# Altium schematic symbol library 示波器.SchLib: 75 symbols
Pins are listed as number, name and electrical type; pins without a type are passive.

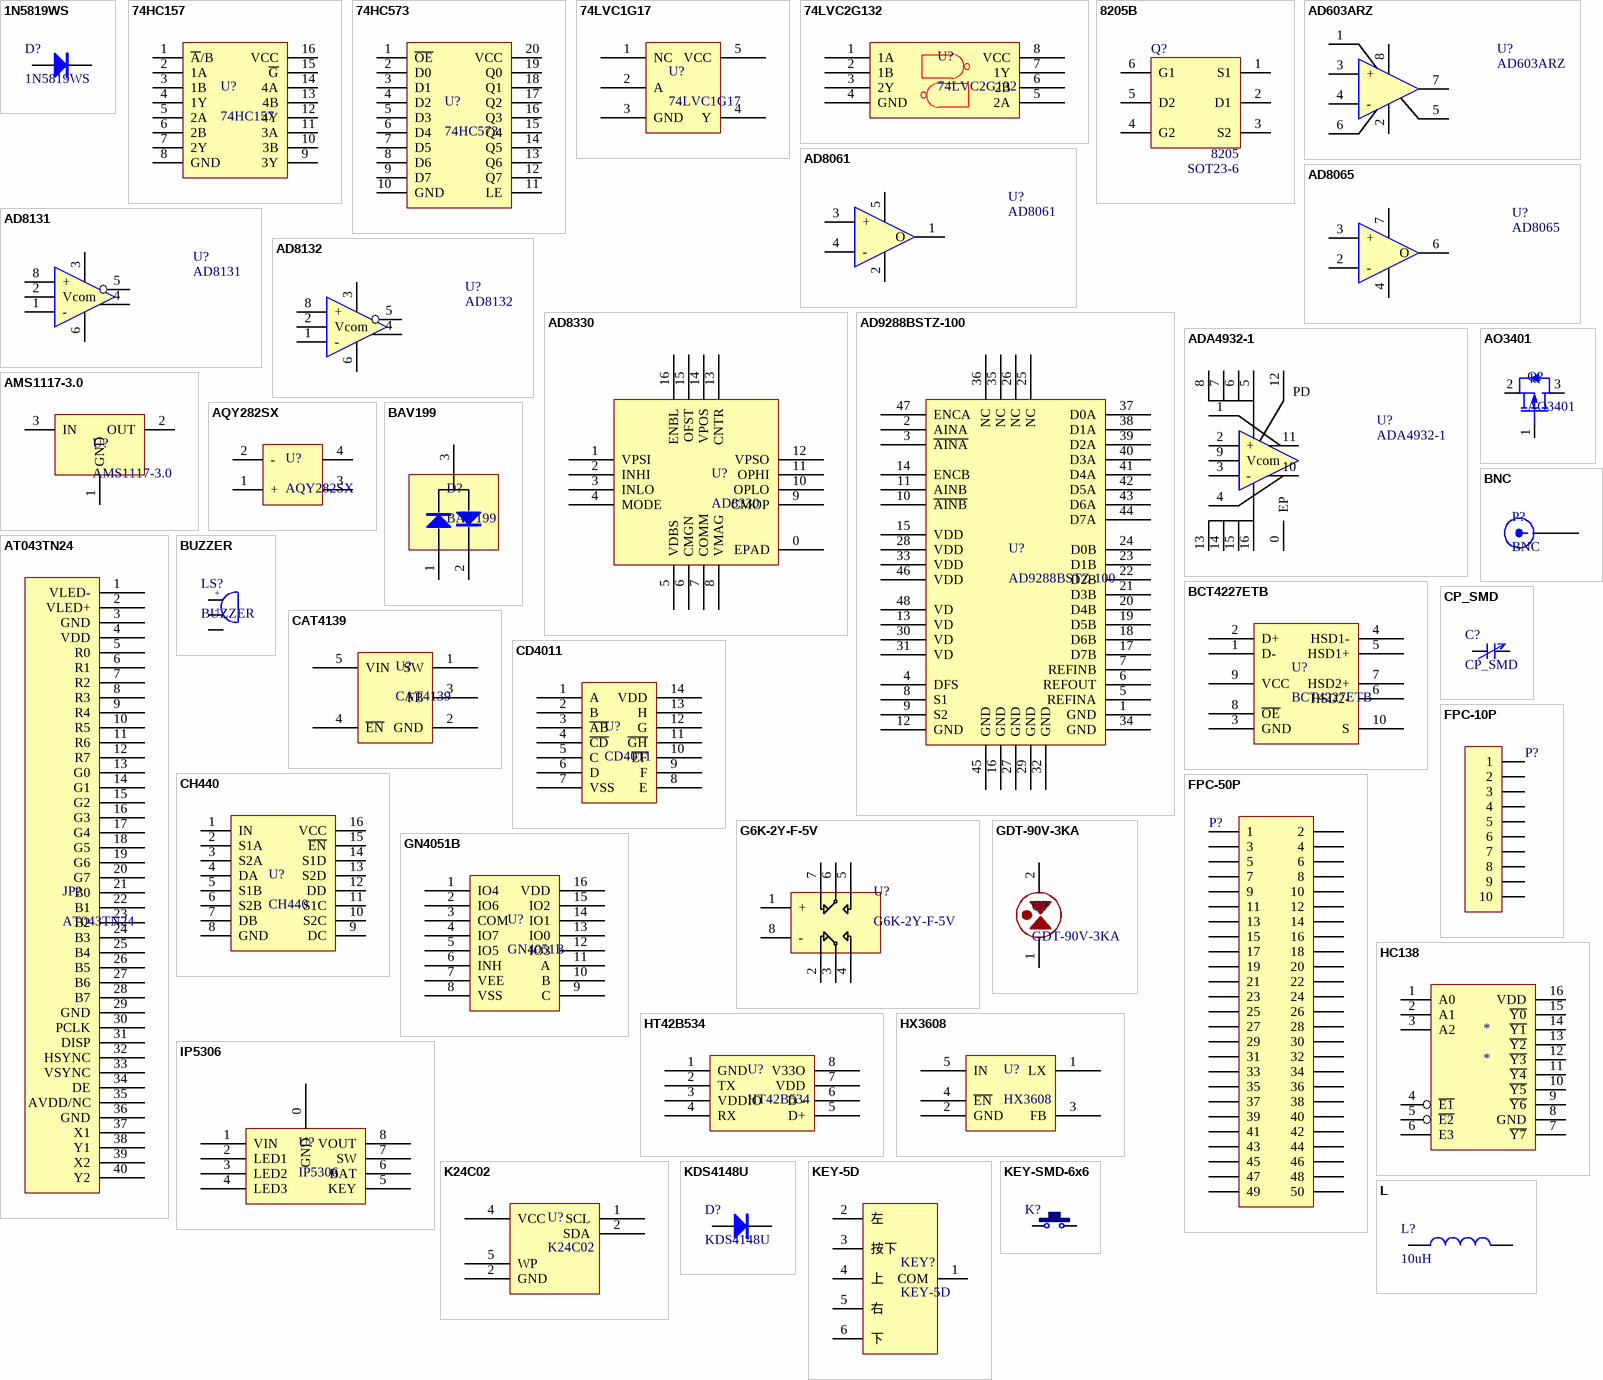
[diagram p0: symbols 1N5819WS to L]

## 1N5819WS
designator D?
肖特基二极管; 版权归属: 源创客; 属性: 40V/2A; BOM名称: 肖特基二极管; 学习资源: www.ooocke.com
footprint SOD-323 (1.8x1.3X0.9mm（长宽高，不包括引脚）)
pins: 1 A, 2 K

## 74HC157
designator U?
四路2选1模拟开关
footprint SOP16_L (10.3*6.2*1.8mm（长宽高）)
pins: 1 ~{A}/B, 2 1A, 3 1B, 4 1Y, 5 2A, 6 2B, 7 2Y, 8 GND, 9 3Y, 10 3B, 11 3A, 12 4Y, 13 4B, 14 4A, 15 ~{G}, 16 VCC

## 74HC573
designator U?
8位三态锁存器
footprint TSSOP20_L (6.5*6.4*1（长宽高）)
pins: 1 ~{OE}, 2 D0, 3 D1, 4 D2, 5 D3, 6 D4, 7 D5, 8 D6, 9 D7, 10 GND, 11 LE, 12 Q7, 13 Q6, 14 Q5, 15 Q4, 16 Q3, 17 Q2, 18 Q1, 19 Q0, 20 VCC

## 74LVC1G17
designator U?
逻辑-缓冲器
footprint SOT-25-5
footprint SOT-353
pins: 1 NC, 2 A, 3 GND, 4 Y, 5 VCC

## 74LVC2G132
designator U?
门级和反相器
footprint US-8
pins: 1 1A, 2 1B, 3 2Y, 4 GND, 5 2A, 6 2B, 7 1Y, 8 VCC

## 8205B
designator Q?, comment Footprinf: SOT23-6  (hidden comment: 8205)
双NMOS; Value: 8205
footprint SOT-23-6M
pins: 1 S1, 2 D1, 3 S2, 4 G2, 5 D2, 6 G1
2 alternate drawings of the same symbol

## AD603ARZ
designator U?
低噪声运放; BOM名称: 单路精密运放; 版权归属: 源创客; 学习资源: www.ooocke.com
footprint SOP8_L (5*6*1.8mm（长宽高）)
footprint SOP8_N (5*6*1.8mm（长宽高）)
footprint SOP8_M (5*6*1.8mm（长宽高）)
footprint DIP8-300 (9.4*7.6*3.8(长宽高）)
pins: 1, 2, 3 +, 4 -, 5, 6, 7, 8

## AD8061
designator U?
FET输入运放; BOM名称: 单路精密运放; 版权归属: 源创客; 学习资源: www.ooocke.com
footprint SOT23-5
pins: 1 O, 2, 3 +, 4 -, 5

## AD8065
designator U?
FET输入运放; BOM名称: 单路精密运放; 版权归属: 源创客; 学习资源: www.ooocke.com
footprint SOP8_L (5*6*1.8mm（长宽高）)
footprint SOP8_N (5*6*1.8mm（长宽高）)
footprint SOP8_M (5*6*1.8mm（长宽高）)
footprint DIP8-300 (9.4*7.6*3.8(长宽高）)
pins: 2 -, 3 +, 4, 6 O, 7

## AD8131
designator U?
全差分运放; BOM名称: 单路精密运放; 版权归属: 源创客; 学习资源: www.ooocke.com
footprint SOP8_L (5*6*1.8mm（长宽高）)
pins: 1 -, 2 Vcom, 3, 4, 5, 6, 8 +

## AD8132
designator U?
全差分运放; BOM名称: 单路精密运放; 版权归属: 源创客; 学习资源: www.ooocke.com
footprint SOP8_L (5*6*1.8mm（长宽高）)
pins: 1 -, 2 Vcom, 3, 4, 5, 6, 8 +

## AD8330
designator U?
压控放大器
footprint LFCSP-16
pins: 0 EPAD, 1 VPSI, 2 INHI, 3 INLO, 4 MODE, 5 VDBS, 6 CMGN, 7 COMM, 8 VMAG, 9 CMOP, 10 OPLO, 11 OPHI, 12 VPSO, 13 CNTR, 14 VPOS, 15 OFST, 16 ENBL

## AD9288BSTZ-100
designator U?
并行双通道高速ADC
footprint TQFP48 7x7_L (48脚，体宽：7x7mm, 脚距：0.5mm)
pins: 1 GND, 2 AINA, 3 ~{AINA}, 4 DFS, 5 REFINA, 6 REFOUT, 7 REFINB, 8 S1, 9 S2, 10 ~{AINB}, 11 AINB, 12 GND, 13 VD, 14 ENCB, 15 VDD, 16 GND, 17 D7B, 18 D6B, 19 D5B, 20 D4B, 21 D3B, 22 D2B, 23 D1B, 24 D0B, 25 NC, 26 NC, 27 GND, 28 VDD, 29 GND, 30 VD, 31 VD, 32 GND, 33 VDD, 34 GND, 35 NC, 36 NC, 37 D0A, 38 D1A, 39 D2A, 40 D3A, 41 D4A, 42 D5A, 43 D6A, 44 D7A, 45 GND, 46 VDD, 47 ENCA, 48 VD

## ADA4932-1
designator U?
差分运放; BOM名称: 单路精密运放; 版权归属: 源创客; 学习资源: www.ooocke.com
footprint LFCSP-16
pins: 0 EP, 1, 2 +, 3 -, 4, 5, 6, 7, 8, 9 Vcom, 10, 11, 12, 13, 14, 15, 16
text: PD

## AMS1117-3.0
designator U?
线性稳压器
footprint SOT-223
pins: 1 GND, 2 OUT, 3 IN

## AO3401
designator Q?
P沟道MOS管
footprint SOT23-3L (3x1.3x1mm(长宽高))
pins: 1, 2, 3

## AQY282SX
designator U?
光电固态继电器
footprint SOP4_L (4.4*6.8*2.1mm（长宽高）)
pins: 1 +, 2 -, 3, 4

## AT043TN24
designator JP?
LED显示屏
footprint FPC0.5 2H-WS-40P (长：24.2mm，宽：5.2mm，高：2mm)
pins: 1 VLED-, 2 VLED+, 3 GND, 4 VDD, 5 R0, 6 R1, 7 R2, 8 R3, 9 R4, 10 R5, 11 R6, 12 R7, 13 G0, 14 G1, 15 G2, 16 G3, 17 G4, 18 G5, 19 G6, 20 G7, 21 B0, 22 B1, 23 B2, 24 B3, 25 B4, 26 B5, 27 B6, 28 B7, 29 GND, 30 PCLK, 31 DISP, 32 HSYNC, 33 VSYNC, 34 DE, 35 AVDD/NC, 36 GND, 37 X1, 38 Y1, 39 X2, 40 Y2

## BAV199
designator D?
双肖特基二极管; BOM名称: 肖特基二极管; 版权归属: 源创客; 属性: 40V/2A; 学习资源: www.ooocke.com
footprint SOT23-3L (3x1.3x1mm(长宽高))
pins: 1, 2, 3

## BCT4227ETB
designator U?
模拟开关芯片
footprint QFN10
pins: 1 D-, 2 D+, 3 GND, 4 HSD1-, 5 HSD1+, 6 HSD2-, 7 HSD2+, 8 ~{OE}, 9 VCC, 10 S

## BNC
designator P?
BNC公头
footprint BNC-TH
pins: 1

## BUZZER
designator LS?
蜂鸣器; 版权归属: 源创客; BOM名称: 蜂鸣器; 学习资源: www.ooocke.com
footprint BUZZER-5*5*2mm
pins: 1, 2, 3
text: +; -

## CAT4139
designator U?
LED驱动
footprint SOT23-5L (3x1.6x1.1mm(长宽高))
pins: 1 SW, 2 GND, 3 FB, 4 ~{EN}, 5 VIN

## CD4011
designator U?
四二输入与非门
footprint SOP14_L (8.7*6.2*1.8mm（长宽高）)
pins: 1 A, 2 B, 3 ~{AB}, 4 ~{CD}, 5 C, 6 D, 7 VSS, 8 E, 9 F, 10 ~{EF}, 11 ~{GH}, 12 G, 13 H, 14 VDD

## CH440
designator U?
四路2选1模拟开关
footprint SOP16_L (10.3*6.2*1.8mm（长宽高）)
pins: 1 IN, 2 S1A, 3 S2A, 4 DA, 5 S1B, 6 S2B, 7 DB, 8 GND, 9 DC, 10 S2C, 11 S1C, 12 DD, 13 S2D, 14 S1D, 15 ~{EN}, 16 VCC

## CP_SMD
designator C?
贴片可调电容
footprint RC-SMD
pins: 1, 2

## FPC-10P
designator P?, comment FPC1.0-10P  (value not drawn)
FPC连接器; 版权归属: 源创客; BOM名称: FPC连接器; 学习资源: www.ooocke.com
footprint FPC1.25A-LI-10P (10脚，长：16mm，宽：4.5mm，高：7.3mm)
footprint FPC0.5 2H-WS-10P (长：9.2mm，宽：5.2mm，高：2mm)
footprint FPC1.0-2H-WS-10P (翻盖FPC，脚距1mm，不含脚（长14.9mm，宽5.2mm，高1.96mm）)
pins: 1, 2, 3, 4, 5, 6, 7, 8, 9, 10

## FPC-50P
designator P?  (value not drawn)
FPC连接器; 版权归属: 源创客; BOM名称: FPC连接器; 学习资源: www.ooocke.com
footprint FPC-0.5-50P
pins: 1, 2, 3, 4, 5, 6, 7, 8, 9, 10, 11, 12, 13, 14, 15, 16, 17, 18, 19, 20, 21, 22, 23, 24, 25, 26, 27, 28, 29, 30, 31, 32, 33, 34, 35, 36, 37, 38, 39, 40, 41, 42, 43, 44, 45, 46, 47, 48, 49, 50

## G6K-2Y-F-5V
designator U?
继电器
footprint G6K-2F-Y (10mm*6.5mm*5.2mm( 长*宽*高))
pins: 1 +, 2, 3, 4, 5, 6, 7, 8 -

## GDT-90V-3KA
designator G?
气体放电管
footprint GDT-1812
pins: 1, 2

## GN4051B
designator U?
模拟开关芯片
footprint SOP16_L (10.3*6.2*1.8mm（长宽高）)
pins: 1 IO4, 2 IO6, 3 COM, 4 IO7, 5 IO5, 6 INH, 7 VEE, 8 VSS, 9 C, 10 B, 11 A, 12 IO3, 13 IO0, 14 IO1, 15 IO2, 16 VDD

## HC138
designator *
pins: 1 A0, 2 A1, 3 A2, 4 ~{E1}, 5 ~{E2}, 6 E3, 7 ~{Y7}, 8 GND, 9 ~{Y6}, 10 ~{Y5}, 11 ~{Y4}, 12 ~{Y3}, 13 ~{Y2}, 14 ~{Y1}, 15 ~{Y0}, 16 VDD

## HT42B534
designator U?
USB芯片
footprint SOT23-5L (3x1.6x1.1mm(长宽高))
pins: 1 GND, 2 TX, 3 VDDIO, 4 RX, 5 D+, 6 D -, 7 VDD, 8 V33O

## HX3608
designator U?
开关电源
footprint SOT23-6 (SOT-23/SC-74A; 5 Leads; Body 3.1 x 3 mm, inc. leads (LxW max))
pins: 1 LX, 2 GND, 3 FB, 4 ~{EN}, 5 IN

## IP5306
designator U?
电源芯片
footprint SOP-8-G (SOIC, 8-Leads, Body 4.9x3.9mm, Pitc)
pins: 0 GND, 1 VIN, 2 LED1, 3 LED2, 4 LED3, 5 KEY, 6 BAT, 7 SW, 8 VOUT

## K24C02
designator U?
EEPROM
footprint SOT23-5L (3x1.6x1.1mm(长宽高))
pins: 1 SCL, 2 GND, 2 SDA, 4 VCC, 5 WP

## KDS4148U
designator D?
开关二极管; BOM名称: 肖特基二极管; 版权归属: 源创客; 属性: 40V/1A; 学习资源: www.ooocke.com
footprint SMA (4.5x2.6*2.2mm（长宽高，不包括引脚）)
pins: 1 A, 2 K

## KEY-5D
designator KEY?
五向按键
footprint KEY-5D-SMD
pins: 1 COM, 2 左, 3 按下, 4 上, 5 右, 6 下

## KEY-SMD-6x6
designator K?, comment 6x6x5  (value not drawn)
贴片6x6轻触开关; 版权归属: 源创客; BOM名称: 贴片6x6轻触开关; 学习资源: www.ooocke.com
footprint TSW SMD-6*6*4.3 (6*6*4.3mm)
footprint TSW SMD-6*6*5 (6*6*5mm)
footprint TSW SMD-6*6*6 (6*6*6mm)
footprint TSW SMD-6*6*7 (6*6*7mm)
footprint TSW SMD-6*6*8 (6*6*8mm)
footprint TSW SMD-6*6*9 (6*6*9mm)
footprint TSW SMD-6*6*10 (6*6*10mm)
footprint TSW SMD-6*6*12 (6*6*12mm)
footprint TSW SMD-6*6*13 (6*6*13mm)
footprint TSW SMD-6*6*14 (6*6*14mm)
footprint TSW SMD-6*6*15 (6*6*15mm)
pins: 1, 2

## L
designator L?, comment 10uH
小功率贴片电感; 版权归属: 源创客; BOM名称: 小功率贴片电感; 学习资源: www.ooocke.com
footprint L 0402 (小功率贴片电感)
footprint L 0603 (小功率贴片电感)
footprint L 0805 (小功率贴片电感)
footprint L 1206 (小功率贴片电感)
footprint L 1210 (小功率贴片电感)
footprint L 1806 (小功率贴片电感)
footprint L 1812 (小功率贴片电感)
footprint CDRH74R
pins: 1, 2

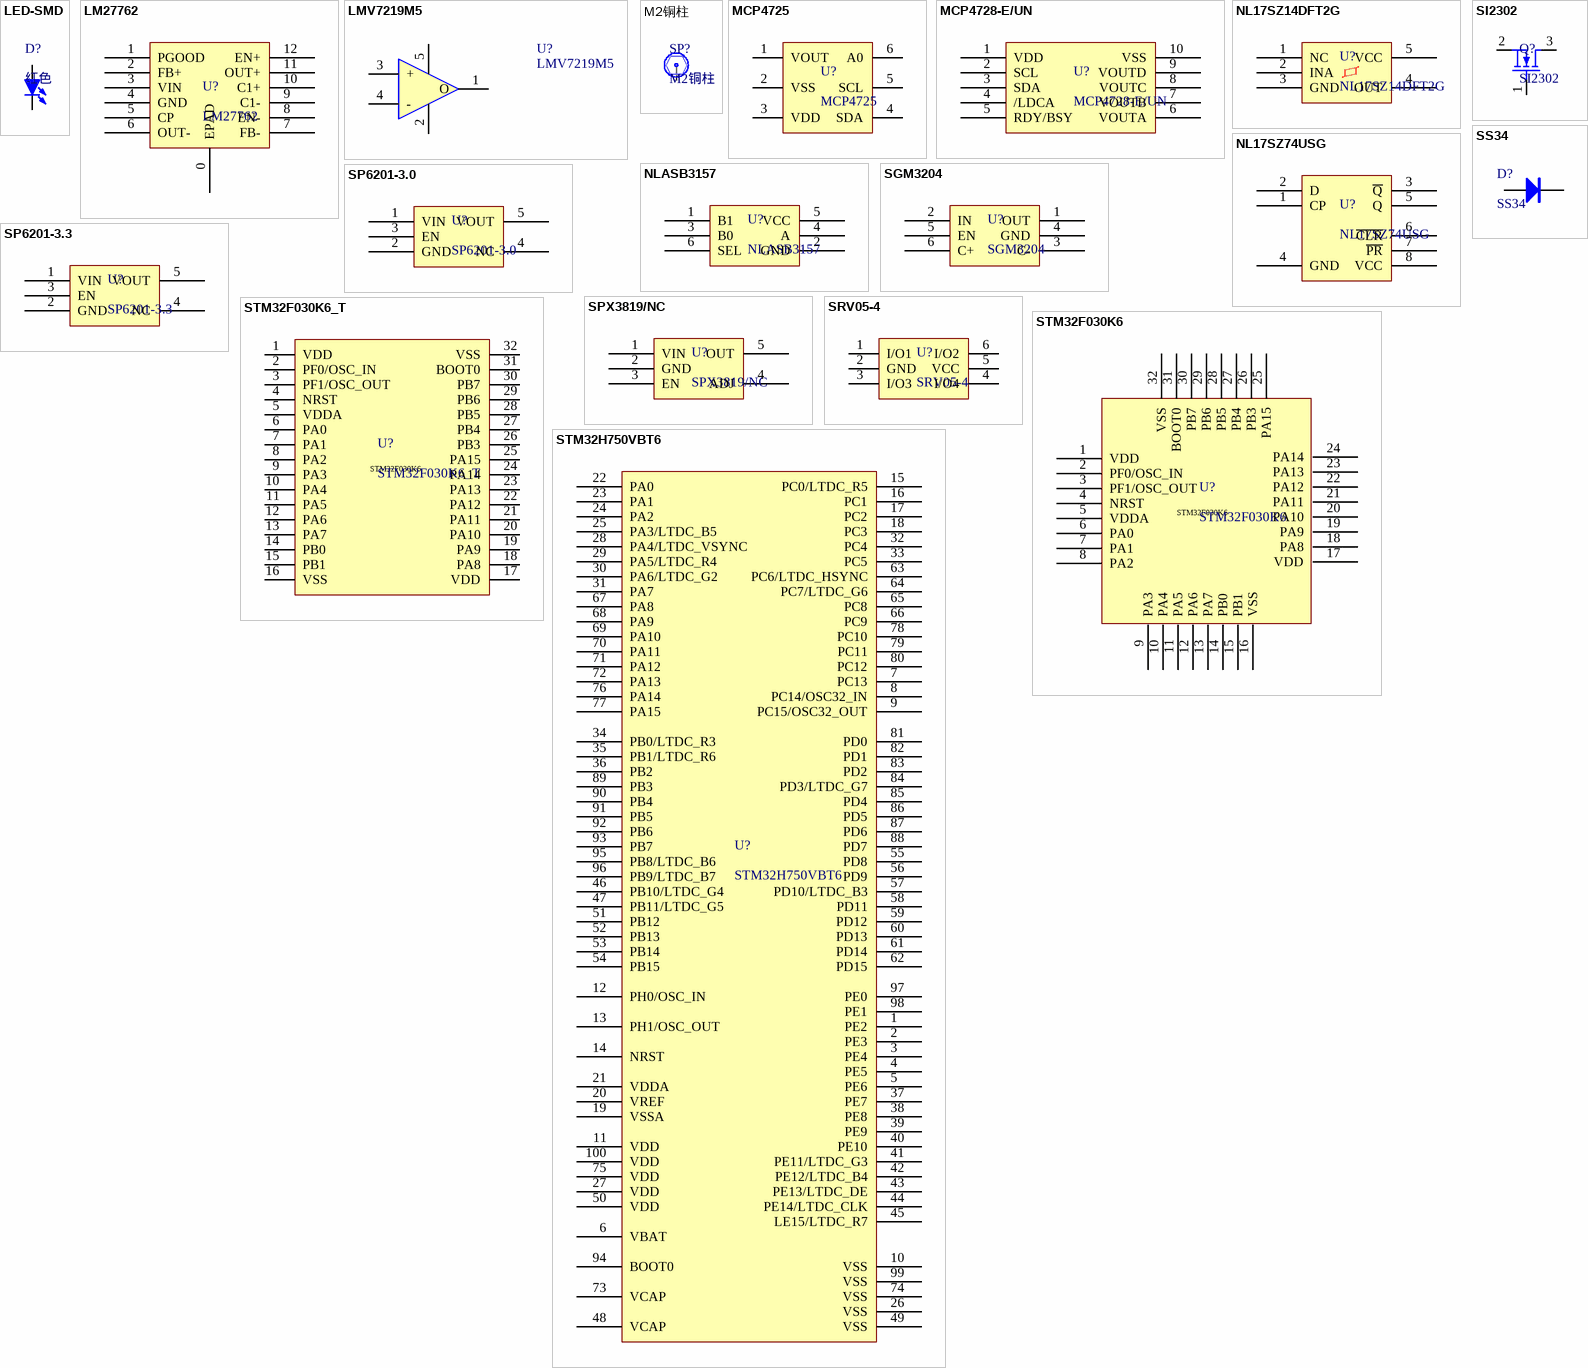
[diagram p1: symbols LED-SMD to STM32H750VBT6]

## LED-SMD
designator D?, comment 红色
贴片LED; 版权归属: 源创客; BOM名称: 贴片LED; 学习资源: www.ooocke.com
footprint LED 0603W (白色0603LED)
footprint LED 0603R (红色0603LED)
footprint LED 0603B (蓝色0603LED)
footprint LED 0603G (绿色0603LED)
footprint LED 0603Y (黄色0603LED)
footprint LED 0805G (绿色0805LED)
footprint LED 0805R (红色0805LED)
footprint LED 0805B (蓝色0805LED)
footprint LED 0805Y (黄色0805LED)
footprint LED 3528-2Pin (2脚，3528LED)
footprint LED 1206G (绿色1206LED)
footprint LED 5730-V (紫色5730LED)
footprint LED 1206Y (黄色1206LED)
footprint LED 0805W (白色0805LED)
footprint LED 1206B (蓝色1206LED)
footprint LED 1206W (白色1206LED)
footprint LED 1206R (红色1206LED)
pins: 1 A, 2 K

## LM27762
designator U?
DC-DC电源芯片
footprint WSON-12
pins: 0 EPAD, 1 PGOOD, 2 FB+, 3 VIN, 4 GND, 5 CP, 6 OUT-, 7 FB-, 8 EN-, 9 C1-, 10 C1+, 11 OUT+, 12 EN+

## LMV7219M5
designator U?
比较器; BOM名称: 单路精密运放; 版权归属: 源创客; 学习资源: www.ooocke.com
footprint SOP8_L (5*6*1.8mm（长宽高）)
footprint SOP8_N (5*6*1.8mm（长宽高）)
footprint SOP8_M (5*6*1.8mm（长宽高）)
footprint DIP8-300 (9.4*7.6*3.8(长宽高）)
pins: 1 O, 2, 3 +, 4 -, 5

## M2铜柱
designator SP?
BOM名称: 铜柱; 版权归属: 源创客; 学习资源: www.ooocke.com
footprint M2 (M3螺丝孔，孔125Mil，焊盘200Mil)
pins: 1

## MCP4725
designator U?
单通道DAC
footprint SOT23-6L (3x1.6x1.1mm(长宽高))
pins: 1 VOUT, 2 VSS, 3 VDD, 4 SDA, 5 SCL, 6 A0

## MCP4728-E/UN
designator U?
数模转换芯片
footprint MSOP-10
pins: 1 VDD, 2 SCL, 3 SDA, 4 /LDCA, 5 RDY/BSY, 6 VOUTA, 7 VOUTB, 8 VOUTC, 9 VOUTD, 10 VSS

## NL17SZ14DFT2G
designator U?
门极和反相器
footprint SOT-353
pins: 1 NC, 2 INA, 3 GND, 4 OUT, 5 VCC

## NL17SZ74USG
designator U?
触发器
footprint VFSOP-8
pins: 1 CP, 2 D, 3 ~{Q}, 4 GND, 5 Q, 6 ~{CLR}, 7 ~{PR}, 8 VCC

## NLASB3157
designator U?
模拟开关芯片
footprint SC88
pins: 1 B1, 2 GND, 3 B0, 4 A, 5 VCC, 6 SEL

## SGM3204
designator U?
电荷泵
footprint SOT23-6L (3x1.6x1.1mm(长宽高))
pins: 1 OUT, 2 IN, 3 C-, 4 GND, 5 EN, 6 C+

## SI2302
designator Q?
场效应管
footprint SOT23-3L (3x1.3x1mm(长宽高))
pins: 1, 2, 3

## SP6201-3.0
designator U?
线性稳压器
footprint SOT23-5L (3x1.6x1.1mm(长宽高))
pins: 1 VIN, 2 GND, 3 EN, 4 NC, 5 VOUT

## SP6201-3.3
designator U?
线性稳压器
footprint SOT23-5L (3x1.6x1.1mm(长宽高))
pins: 1 VIN, 2 GND, 3 EN, 4 NC, 5 VOUT

## SPX3819/NC
designator U?
线性稳压器
footprint SOT23-5L (3x1.6x1.1mm(长宽高))
pins: 1 VIN, 2 GND, 3 EN, 4 ADJ, 5 OUT

## SRV05-4
designator U?
TVS二极管
footprint SOT-23-6M
pins: 1 I/O1, 2 GND, 3 I/O3, 4 I/O4, 5 VCC, 6 I/O2

## SS34
designator D?
肖特基二极管; 版权归属: 源创客; 属性: 40V/2A; BOM名称: 肖特基二极管; 学习资源: www.ooocke.com
footprint SMA (4.5x2.6*2.2mm（长宽高，不包括引脚）)
pins: 1 A, 2 K

## STM32F030K6
designator U?
微型控制器
footprint LQFP32-7*7 (7mmx7mm，间距0.8mm（蒜米工坊）)
pins: 1 VDD, 2 PF0/OSC_IN, 3 PF1/OSC_OUT, 4 NRST, 5 VDDA, 6 PA0, 7 PA1, 8 PA2, 9 PA3, 10 PA4, 11 PA5, 12 PA6, 13 PA7, 14 PB0, 15 PB1, 16 VSS, 17 VDD, 18 PA8, 19 PA9, 20 PA10, 21 PA11, 22 PA12, 23 PA13, 24 PA14, 25 PA15, 26 PB3, 27 PB4, 28 PB5, 29 PB6, 30 PB7, 31 BOOT0, 32 VSS

## STM32F030K6_T
designator U?
微型控制器
footprint LQFP32 7X7_N (32脚，体宽7x7mm，脚距0.8mm)
pins: 1 VDD (power), 2 PF0/OSC_IN, 3 PF1/OSC_OUT, 4 NRST, 5 VDDA, 6 PA0, 7 PA1, 8 PA2, 9 PA3, 10 PA4, 11 PA5, 12 PA6, 13 PA7, 14 PB0, 15 PB1, 16 VSS, 17 VDD (power), 18 PA8, 19 PA9, 20 PA10, 21 PA11, 22 PA12, 23 PA13, 24 PA14, 25 PA15, 26 PB3, 27 PB4, 28 PB5, 29 PB6, 30 PB7, 31 BOOT0, 32 VSS
text: STM32F030K6

## STM32H750VBT6
designator U?
微型控制器
footprint TQFP100 14x14_N (100脚，体宽：14x14mm, 脚距：0.5mm)
pins: 1 PE2, 2 PE3, 3 PE4, 4 PE5, 5 PE6, 6 VBAT, 7 PC13, 8 PC14/OSC32_IN, 9 PC15/OSC32_OUT, 10 VSS, 11 VDD, 12 PH0/OSC_IN, 13 PH1/OSC_OUT, 14 NRST, 15 PC0/LTDC_R5, 16 PC1, 17 PC2, 18 PC3, 19 VSSA, 20 VREF, 21 VDDA, 22 PA0, 23 PA1, 24 PA2, 25 PA3/LTDC_B5, 26 VSS, 27 VDD, 28 PA4/LTDC_VSYNC, 29 PA5/LTDC_R4, 30 PA6/LTDC_G2, 31 PA7, 32 PC4, 33 PC5, 34 PB0/LTDC_R3, 35 PB1/LTDC_R6, 36 PB2, 37 PE7, 38 PE8, 39 PE9, 40 PE10, 41 PE11/LTDC_G3, 42 PE12/LTDC_B4, 43 PE13/LTDC_DE, 44 PE14/LTDC_CLK, 45 LE15/LTDC_R7, 46 PB10/LTDC_G4, 47 PB11/LTDC_G5, 48 VCAP, 49 VSS, 50 VDD, 51 PB12, 52 PB13, 53 PB14, 54 PB15, 55 PD8, 56 PD9, 57 PD10/LTDC_B3, 58 PD11, 59 PD12, 60 PD13, 61 PD14, 62 PD15, 63 PC6/LTDC_HSYNC, 64 PC7/LTDC_G6, 65 PC8, 66 PC9, 67 PA8, 68 PA9, 69 PA10, 70 PA11, 71 PA12, 72 PA13, 73 VCAP, 74 VSS, 75 VDD, 76 PA14, 77 PA15, 78 PC10, 79 PC11, 80 PC12, 81 PD0, 82 PD1, 83 PD2, 84 PD3/LTDC_G7, 85 PD4, 86 PD5, 87 PD6, 88 PD7, 89 PB3, 90 PB4, 91 PB5, 92 PB6, 93 PB7, 94 BOOT0, 95 PB8/LTDC_B6, 96 PB9/LTDC_B7, 97 PE0, 98 PE1, 99 VSS, 100 VDD

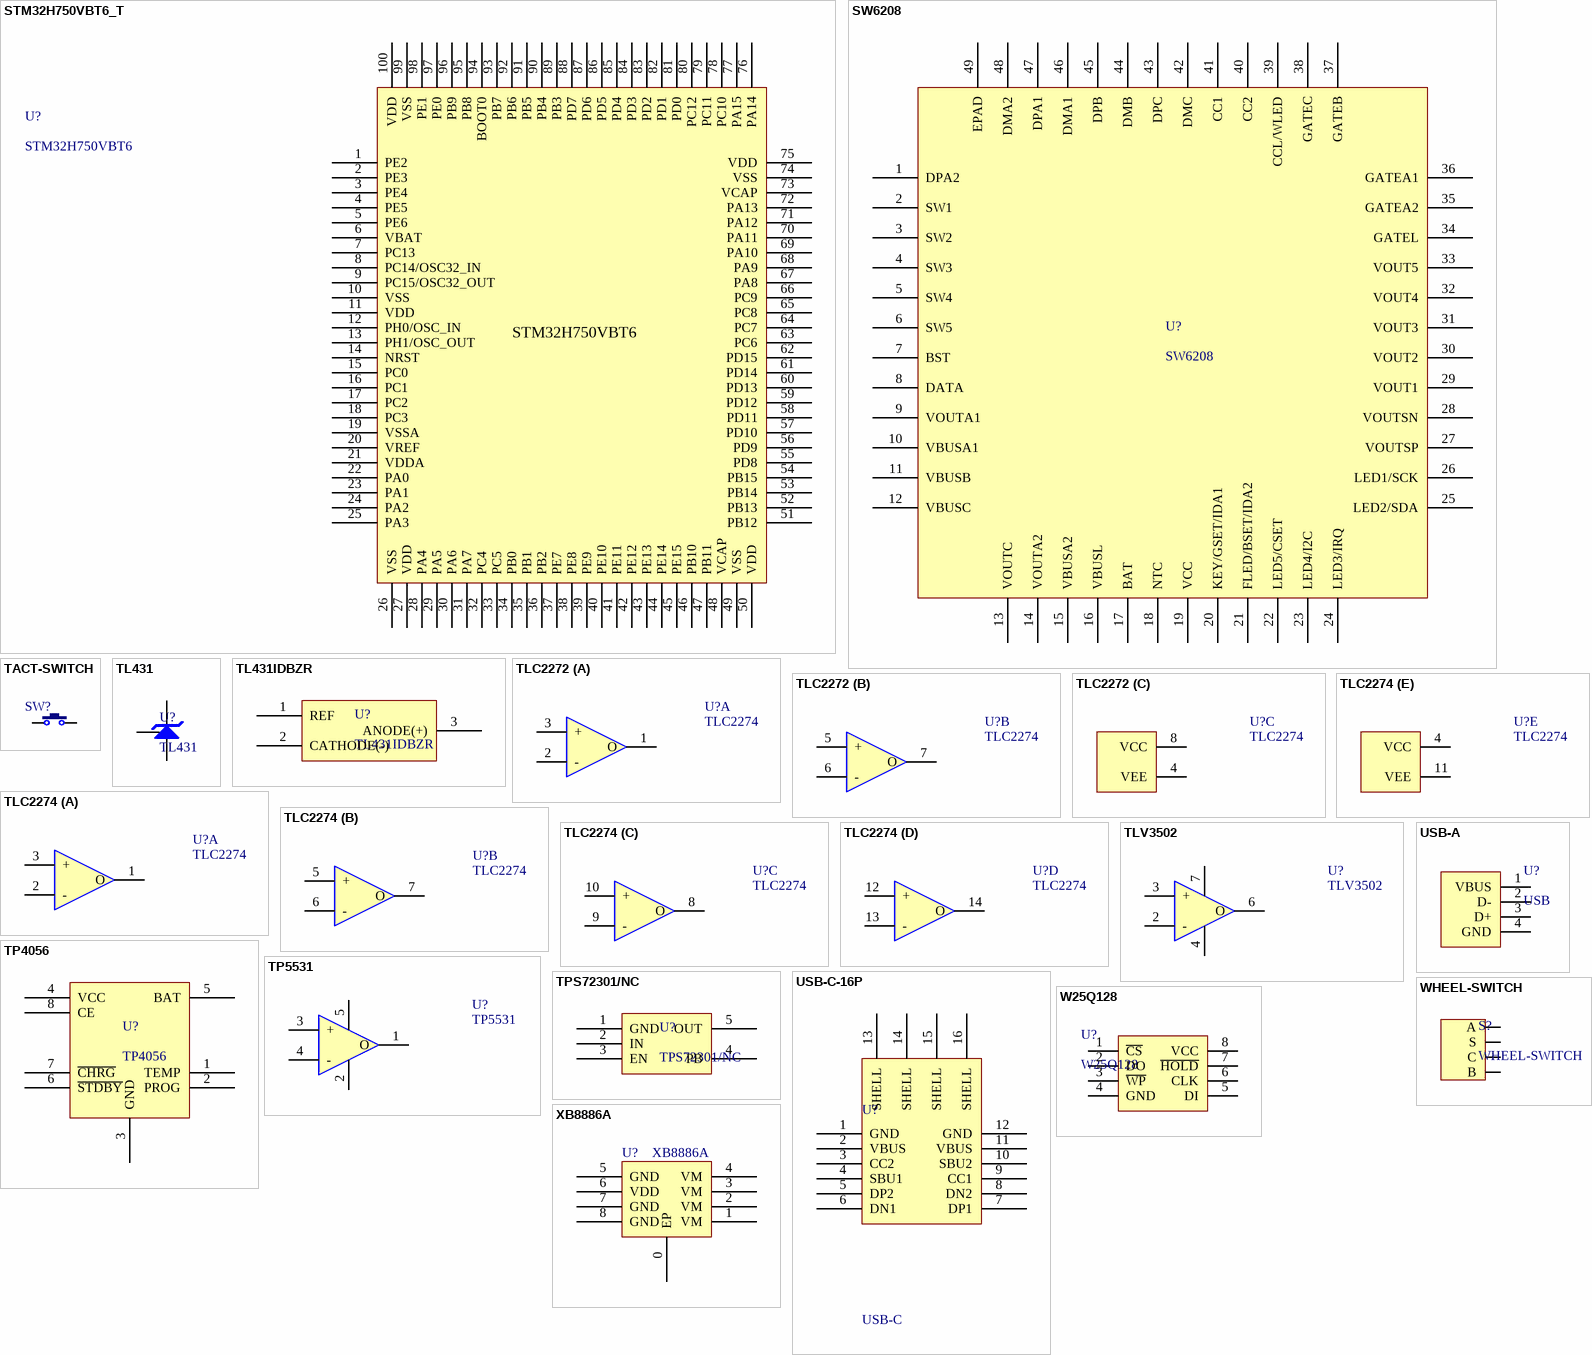
[diagram p2: symbols STM32H750VBT6_T to XB8886A]

## STM32H750VBT6_T
designator U?, comment STM32H750VBT6
微型控制器
footprint TQFP100 14x14_N (100脚，体宽：14x14mm, 脚距：0.5mm)
pins: 1 PE2, 2 PE3, 3 PE4, 4 PE5, 5 PE6, 6 VBAT, 7 PC13, 8 PC14/OSC32_IN, 9 PC15/OSC32_OUT, 10 VSS, 11 VDD, 12 PH0/OSC_IN, 13 PH1/OSC_OUT, 14 NRST, 15 PC0, 16 PC1, 17 PC2, 18 PC3, 19 VSSA, 20 VREF, 21 VDDA, 22 PA0, 23 PA1, 24 PA2, 25 PA3, 26 VSS, 27 VDD, 28 PA4, 29 PA5, 30 PA6, 31 PA7, 32 PC4, 33 PC5, 34 PB0, 35 PB1, 36 PB2, 37 PE7, 38 PE8, 39 PE9, 40 PE10, 41 PE11, 42 PE12, 43 PE13, 44 PE14, 45 PE15, 46 PB10, 47 PB11, 48 VCAP, 49 VSS, 50 VDD, 51 PB12, 52 PB13, 53 PB14, 54 PB15, 55 PD8, 56 PD9, 57 PD10, 58 PD11, 59 PD12, 60 PD13, 61 PD14, 62 PD15, 63 PC6, 64 PC7, 65 PC8, 66 PC9, 67 PA8, 68 PA9, 69 PA10, 70 PA11, 71 PA12, 72 PA13, 73 VCAP, 74 VSS, 75 VDD, 76 PA14, 77 PA15, 78 PC10, 79 PC11, 80 PC12, 81 PD0, 82 PD1, 83 PD2, 84 PD3, 85 PD4, 86 PD5, 87 PD6, 88 PD7, 89 PB3, 90 PB4, 91 PB5, 92 PB6, 93 PB7, 94 BOOT0, 95 PB8, 96 PB9, 97 PE0, 98 PE1, 99 VSS, 100 VDD

## SW6208
designator U?
电源管理芯片
footprint QFN48 7X7_L (48脚，长x宽x高：7x7x1mm，脚距：0.5mm)
pins: 1 DPA2, 2 SW1, 3 SW2, 4 SW3, 5 SW4, 6 SW5, 7 BST, 8 DATA, 9 VOUTA1, 10 VBUSA1, 11 VBUSB, 12 VBUSC, 13 VOUTC, 14 VOUTA2, 15 VBUSA2, 16 VBUSL, 17 BAT, 18 NTC, 19 VCC, 20 KEY/GSET/IDA1, 21 FLED/BSET/IDA2, 22 LED5/CSET, 23 LED4/I2C, 24 LED3/IRQ, 25 LED2/SDA, 26 LED1/SCK, 27 VOUTSP, 28 VOUTSN, 29 VOUT1, 30 VOUT2, 31 VOUT3, 32 VOUT4, 33 VOUT5, 34 GATEL, 35 GATEA2, 36 GATEA1, 37 GATEB, 38 GATEC, 39 CCL/WLED, 40 CC2, 41 CC1, 42 DMC, 43 DPC, 44 DMB, 45 DPB, 46 DMA1, 47 DPA1, 48 DMA2, 49 EPAD

## TACT-SWITCH
designator SW?  (value not drawn)
轻触开关; BOM名称: 3x6轻触开关; 版权归属: 源创客; 学习资源: www.ooocke.com
footprint TSW SMD-3*6*2.5 (3*6*2.5mm)
footprint TSW DIP-3*6*5_V (侧按轻触开关 3*6*5mm)
footprint TSW DIP-3*6*4.3 (3*6*4.3mm)
footprint TSW DIP-3*6*4.3_V (侧按轻触开关 3*6*4.3mm)
footprint TSW DIP-3*6*5 (3*6*5mm)
footprint TSW SMD-3*6*4.3 (3*6*4.3mm)
footprint TSW SMD-3*6*5 (3*6*5mm)
footprint TSW 3*6*4.3-S-W (侧立贴片3*6*4.3)
pins: 1, 2

## TL431
designator U?
电压基准芯片
footprint SOT23-3L (3x1.3x1mm(长宽高))
pins: 1, 2, 3

## TL431IDBZR
designator U?
电压基准芯片
footprint SOT23-3L (3x1.3x1mm(长宽高))
pins: 1 REF, 2 CATHODE(-), 3 ANODE(+)

## TLC2272
designator U?, comment TLC2274
2路精密运放; BOM名称: 单路精密运放; 版权归属: 源创客; 学习资源: www.ooocke.com
footprint SOIC-8
part A pins: 1 O, 2 -, 3 +
part B pins: 5 +, 6 -, 7 O
part C pins: 4 VEE, 8 VCC

## TLC2274
designator U?
4路精密运放; BOM名称: 单路精密运放; 版权归属: 源创客; 学习资源: www.ooocke.com
footprint SOP8_L (5*6*1.8mm（长宽高）)
footprint SOP8_N (5*6*1.8mm（长宽高）)
footprint SOP8_M (5*6*1.8mm（长宽高）)
footprint DIP8-300 (9.4*7.6*3.8(长宽高）)
part A pins: 1 O, 2 -, 3 +
part B pins: 5 +, 6 -, 7 O
part C pins: 8 O, 9 -, 10 +
part D pins: 12 +, 13 -, 14 O
part E pins: 4 VCC, 11 VEE

## TLV3502
designator U?
高速比较器; BOM名称: 单路精密运放; 版权归属: 源创客; 学习资源: www.ooocke.com
footprint SOP8_L (5*6*1.8mm（长宽高）)
pins: 2 -, 3 +, 4, 6 O, 7

## TP4056
designator U?
电源管理芯片
footprint SOT23-5L (3x1.6x1.1mm(长宽高))
pins: 1 TEMP, 2 PROG, 3 GND, 4 VCC, 5 BAT, 6 ~{STDBY}, 7 ~{CHRG}, 8 CE

## TP5531
designator U?
零漂运放; BOM名称: 单路精密运放; 版权归属: 源创客; 学习资源: www.ooocke.com
footprint SOT23-5
pins: 1 O, 2, 3 +, 4 -, 5

## TPS72301/NC
designator U?
线性稳压器
footprint SOT23-5L (3x1.6x1.1mm(长宽高))
pins: 1 GND, 2 IN, 3 EN, 4 PB, 5 OUT

## USB-A
designator U?, comment USB
USB-A型母接口; 版权归属: 源创客; BOM名称: USB-A型母接口; 学习资源: www.ooocke.com
footprint USB-A/S_B (A型贴片母头，)
footprint USB-A/S_A (A型直插母头，)
footprint USB-A/S_C (A型贴片母头，)
footprint USB-A/S_D (A型直插母头，)
footprint USB-A/S_E (A型直插母头，)
footprint USB-A/S_F (A型侧插短体无卷边 90度母座)
pins: 1 VBUS, 2 D-, 3 D+, 4 GND

## USB-C-16P
designator U?, comment USB-C
USB-C型母接口; 版权归属: 源创客; BOM名称: USB-C型母接口; 学习资源: www.ooocke.com
footprint USB-C/S_B
footprint USB-C/S_B
footprint TYPE-C-USB-17
pins: 1 GND, 2 VBUS, 3 CC2, 4 SBU1, 5 DP2, 6 DN1, 7 DP1, 8 DN2, 9 CC1, 10 SBU2, 11 VBUS, 12 GND, 13 SHELL, 14 SHELL, 15 SHELL, 16 SHELL

## W25Q128
designator U?
外置Flash; 版权归属: 源创客; BOM名称: 外置Flash; 学习资源: www.ooocke.com
footprint SOP8W_N (5.3*8.3*1.8mm（长宽高）)
footprint SOP8W_L (5.3*8.3*1.8mm（长宽高）)
footprint SOP8W_M (5.3*8.3*1.8mm（长宽高）)
pins: 1 ~{CS}, 2 DO, 3 ~{WP}, 4 GND, 5 DI, 6 CLK, 7 ~{HOLD}, 8 VCC

## WHEEL-SWITCH
designator S?
拨盘编码器
footprint WHEEL-SWITCH
pins: A, B, C, S

## XB8886A
designator U?
锂电池保护芯片
footprint SOP-8-G (SOIC, 8-Leads, Body 4.9x3.9mm, Pitc)
pins: 0 EP, 1 VM, 2 VM, 3 VM, 4 VM, 5 GND, 6 VDD, 7 GND, 8 GND